# EAGLE library part MICROUSB (library microusb)
JAE Micro USB Buchse rechtwinklig SMD Typ B RS-Nr: 435-645
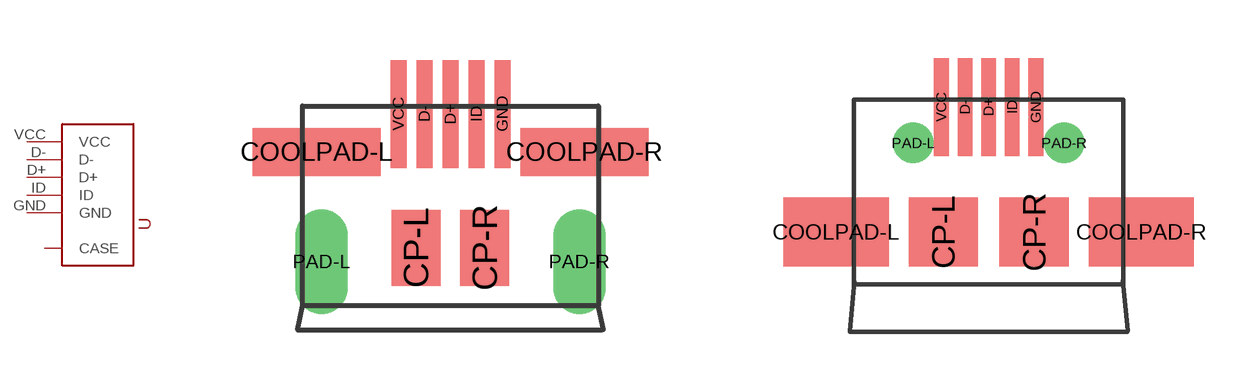
[diagram p0: symbol with the pads of MICROUSB; footprints MICROUSB, WUERTH_629105136821]

Designator prefix -

## MICROUSB  [MICROUSB]
COOLPAD-L  CASE  pas
COOLPAD-R  CASE  pas
D+  D+
D-  D-
GND  GND
ID  ID
VCC  VCC

## MICROUSBWüRTH  [WUERTH_629105136821]
Pads as for MICROUSB

## MICROUSBNO_DATA  [WUERTH_629105136821_NODATA]
COOLPAD-L  CASE  pas
COOLPAD-R  CASE  pas
GND  GND
VCC  VCC

## Footprint MICROUSB (pad centres in mm)
Micro USB Buchse SMD Typ B RS Bestellnr.: 435-645
smd 3.2 x 1.2: COOLPAD-L -3.35,3.85; COOLPAD-R 3.35,3.85
smd 1.225 x 1.9: CP-L -0.86,1.45; CP-R 0.86,1.45
smd 0.4 x 2.7: D+ 0,4.8; D- -0.65,4.8; GND 1.3,4.8; ID 0.65,4.8; VCC -1.3,4.8
drill 0.8 pad 1.2 long: PAD-L -3.225,1.1; PAD-R 3.225,1.1

## Footprint WUERTH_629105136821 (pad centres in mm)
MICRO USB 2.0 SMT TYPE B 5 CONTACTS - WR-COM Wuerth: : 629 105 136 821 RS: 818-3361
smd 2.9 x 1.9: COOLPAD-L -4.2,-2.45; COOLPAD-R 4.2,-2.45
smd 1.9 x 1.9: CP-L -1.25,-2.45; CP-R 1.25,-2.45
smd 0.4 x 2.7: D+ 0,0.99; D- -0.65,0.99; GND 1.3,0.99; ID 0.65,0.99; VCC -1.3,0.99
drill 0.6 pad 0.8: PAD-L -2.075,0; PAD-R 2.075,0

## Footprint WUERTH_629105136821_NODATA (pad centres in mm)
smd 2.9 x 1.9: COOLPAD-L -4.2,-2.45; COOLPAD-R 4.2,-2.45
smd 1.9 x 1.9: CP-L -1.25,-2.45; CP-R 1.25,-2.45
smd 0.4 x 2.7: GND 1.3,0.99; VCC -1.3,0.99
drill 0.6 pad 0.8: PAD-L -2.075,0; PAD-R 2.075,0